# EAGLE library part THAT1606 (library nw2s)
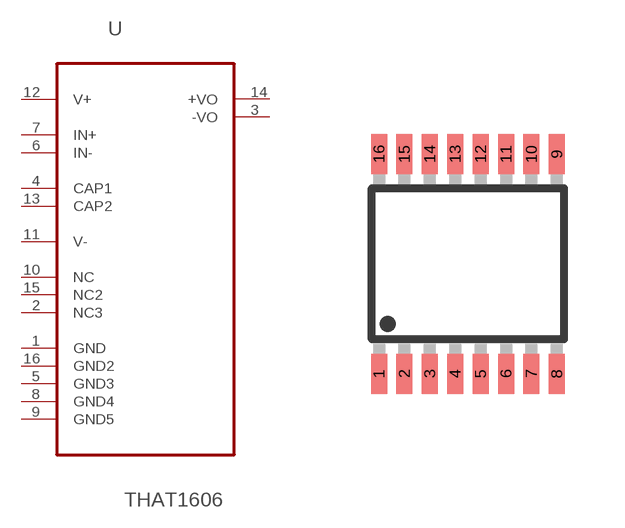
[diagram p2: symbol with the pads of QSOP16; footprint QSOP16]

Designator prefix -

## THAT1606  [QSOP16]
1  GND  pas
2  NC3  nc
3  -VO  out
4  CAP1  pas
5  GND3  nc
6  IN-  nc
7  IN+  in
8  GND4  nc
9  GND5  nc
10  NC  nc
11  V-  pwr
12  V+  pwr
13  CAP2  pas
14  +VO  out
15  NC2  nc
16  GND2  nc

## Footprint QSOP16 (pad centres in mm)
Small Outline Package
smd 0.4 x 1: 1 -2.223,-2.75; 2 -1.588,-2.75; 3 -0.953,-2.75; 4 -0.318,-2.75; 5 0.318,-2.75; 6 0.953,-2.75; 7 1.588,-2.75; 8 2.223,-2.75; 9 2.223,2.75; 10 1.588,2.75; 11 0.953,2.75; 12 0.318,2.75; 13 -0.318,2.75; 14 -0.953,2.75; 15 -1.588,2.75; 16 -2.223,2.75